# Altium schematic symbol library SLAYER_Altium_Sch.SchLib: 31 symbols
Pins are listed as number, name and electrical type; pins without a type are passive.

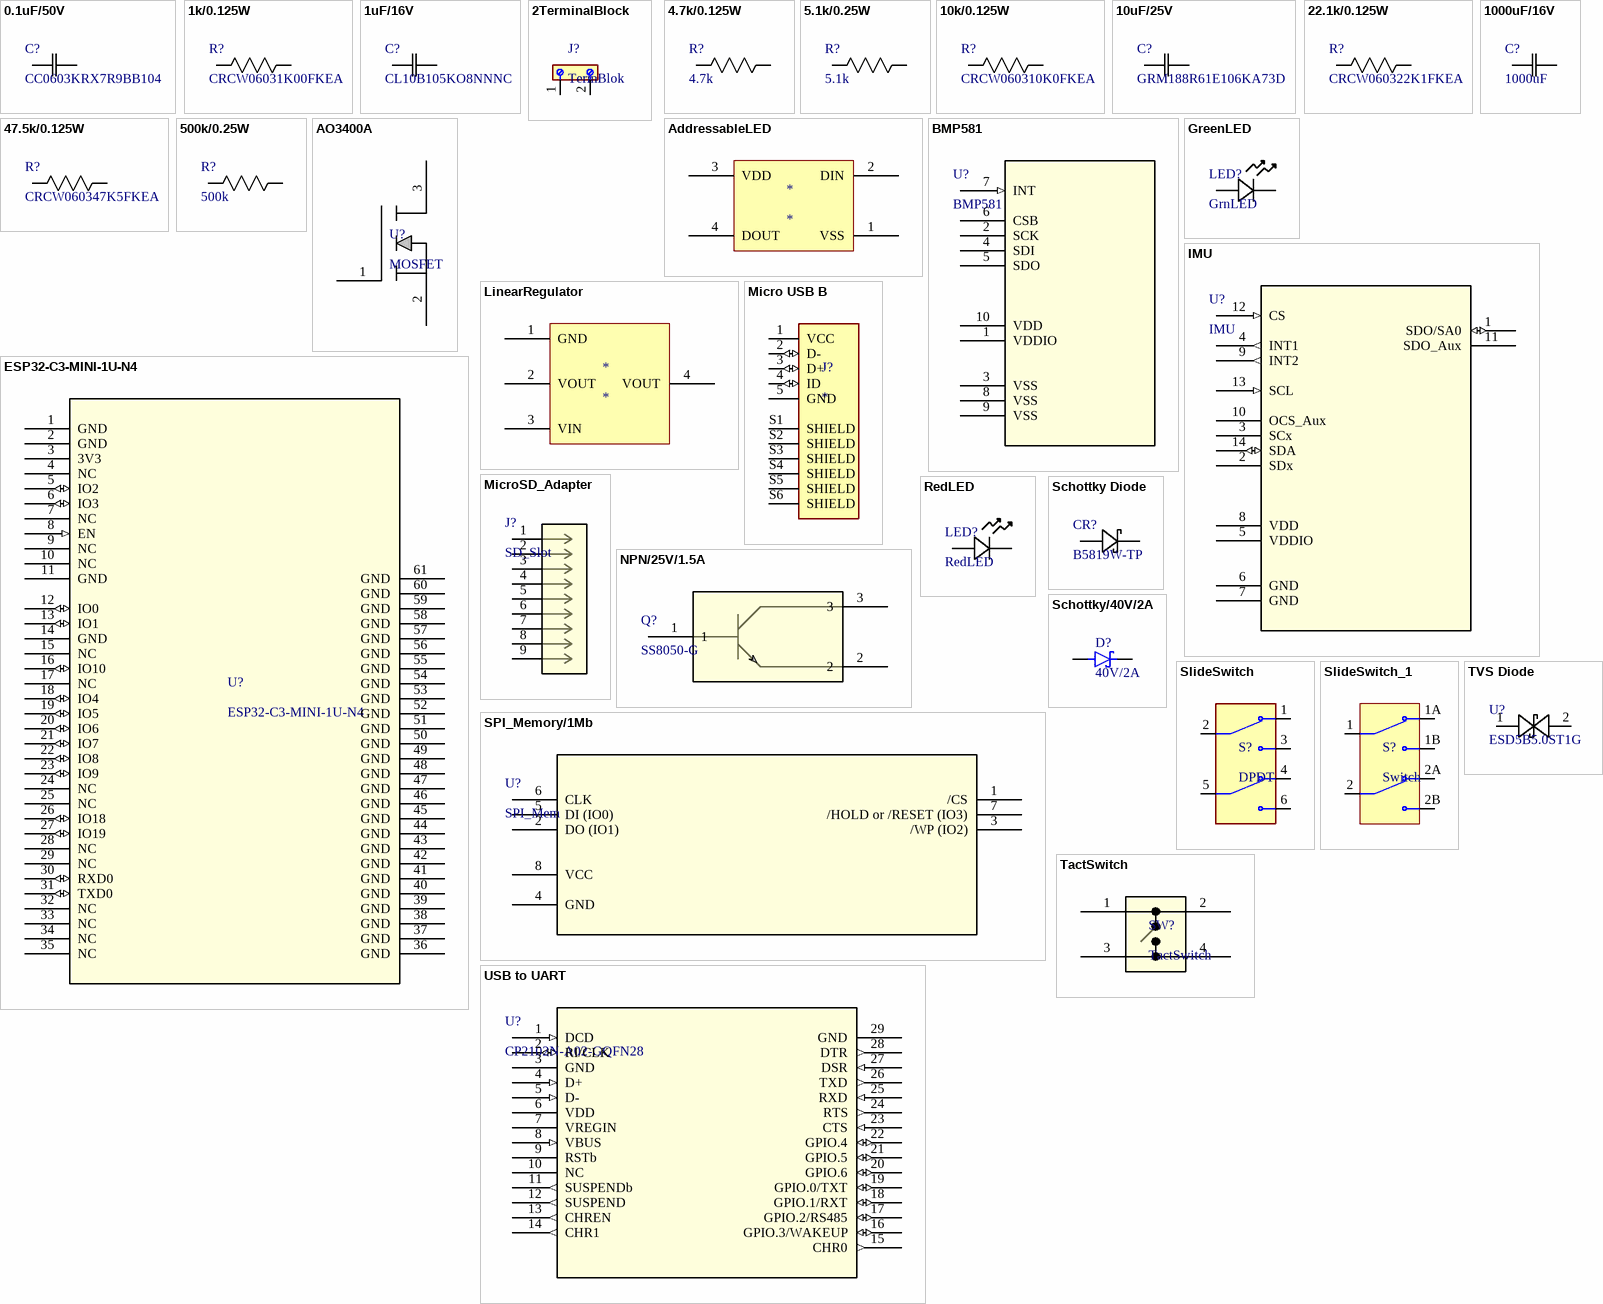
[diagram p0: symbols 0.1uF/50V to USB to UART]

## 0.1uF/50V
designator C?, comment CC0603KRX7R9BB104
Manufacturer_Name: Yageo; Copyright: Copyright (C) 2025 Ultra Librarian. All rights reserved.; Manufacturer_Part_Number: CC0603KRX7R9BB104
footprint 0.1uF/50V (CC0603KRX7R9BB104)
pins: 1, 2

## 1k/0.125W
designator R?, comment CRCW06031K00FKEA
Manufacturer_Name: Vishay; Copyright: Copyright (C) 2026 Ultra Librarian. All rights reserved.; Manufacturer_Part_Number: CRCW06031K00FKEA
footprint 1k/0.125W (CRCW06031K00FKEA)
pins: 1, 2

## 1uF/16V
designator C?, comment CL10B105KO8NNNC
Manufacturer_Name: Samsung; Copyright: Copyright (C) 2025 Ultra Librarian. All rights reserved.; Manufacturer_Part_Number: CL10B105KO8NNNC
footprint 1uF/16V (CL10B105KO8NNNC)
pins: 1, 2

## 2TerminalBlock
designator J?, comment TermBlok
691137710002; MF: WÃ¼rth Elektronik; SnapEDA_Link: https://www.snapeda.com/parts/691137710002/W%25C3%25BCrth+Elektronik+Midcom/view-part/?ref=snap; Package: None; Value: *; MP: 691137710002; Check_prices: https://www.snapeda.com/parts/691137710002/W%25C3%25BCrth+Elektronik+Midcom/view-part/?ref=eda
footprint TerminalBlock (691137710002)
pins: 1, 2

## 4.7k/0.125W
designator R?, comment 4.7k
CRCW06034K70FKEA; Manufacturer_Name: Vishay; Copyright: Copyright (C) 2025 Ultra Librarian. All rights reserved.; Manufacturer_Part_Number: CRCW06034K70FKEA
footprint 4.7k/0.125W (CRCW06034K70FKEA)
pins: 1, 2

## 5.1k/0.25W
designator R?, comment 5.1k
CRCW08055K10FKEA; Manufacturer_Name: Vishay; Copyright: Copyright (C) 2026 Ultra Librarian. All rights reserved.; Manufacturer_Part_Number: CRCW08055K10FKEA
footprint 5.1k/0.25W (CRCW08055K10FKEA)
pins: 1, 2

## 10k/0.125W
designator R?, comment CRCW060310K0FKEA
Manufacturer_Name: Vishay; Copyright: Copyright (C) 2025 Ultra Librarian. All rights reserved.; Manufacturer_Part_Number: CRCW060310K0FKEA
footprint 10k/0.125W (CRCW060310K0FKEA)
pins: 1, 2

## 10uF/25V
designator C?, comment GRM188R61E106KA73D
Manufacturer_Name: Murata; Copyright: Copyright (C) 2026 Ultra Librarian. All rights reserved.; Manufacturer_Part_Number: GRM188R61E106KA73D
footprint 10uF/25V/0603 (GRM188R61E106KA73D)
pins: 1, 2

## 22.1k/0.125W
designator R?, comment CRCW060322K1FKEA
Manufacturer_Name: Vishay; Copyright: Copyright (C) 2025 Ultra Librarian. All rights reserved.; Manufacturer_Part_Number: CRCW060322K1FKEA
footprint 22.1k/0.125W (CRCW060322K1FKEA)
pins: 1, 2

## 47.5k/0.125W
designator R?, comment CRCW060347K5FKEA
Manufacturer_Name: Vishay; Copyright: Copyright (C) 2026 Ultra Librarian. All rights reserved.; Manufacturer_Part_Number: CRCW060347K5FKEA
footprint 47.5k/0.125W (CRCW060347K5FKEA)
pins: 1, 2

## 500k/0.25W
designator R?, comment 500k
RC1206FR-07470KL; Manufacturer_Name: Yageo; Copyright: Copyright (C) 2026 Ultra Librarian. All rights reserved.; Manufacturer_Part_Number: RC1206FR-07470KL
footprint 500k/0.25W (RC1206FR-07470KL)
pins: 1, 2

## 1000uF/16V
designator C?, comment 1000uF
A768MS108M1CLAS015; Manufacturer_Name: Kemet; Type: Aluminum-Polymer Capacitors; Copyright: Copyright (C) 2025 Ultra Librarian. All rights reserved.; Manufacturer_Part_Number: A768MS108M1CLAS015
footprint 1000uF/16V (A768MS108M1CLAS015)
pins: 1, 2

## AddressableLED
designator *
footprint AddressableLED (SK6812MINI-HS-012)
pins: 1 VSS (power), 2 DIN (power), 3 VDD (power), 4 DOUT (power)

## AO3400A
designator U?, comment MOSFET
AO3400A; Manufacturer_Name: Alpha and Omega Semiconductor; Copyright: Copyright (C) 2025 Ultra Librarian. All rights reserved.; Manufacturer_Part_Number: AO3400A; RefDes: RefDes; Type: Type
footprint MOSFET (AO3400A)
pins: 1 G, 2 S, 3 D

## BMP581
designator U?
Manufacturer_Name: Bosch Sensortec; Copyright: Copyright (C) 2026 Ultra Librarian. All rights reserved.; Manufacturer_Part_Number: BMP581; RefDes: RefDes; Type: Type
footprint BMP581
pins: 1 VDDIO (power), 2 SCK, 3 VSS (power), 4 SDI, 5 SDO, 6 CSB, 7 INT (in), 8 VSS (power), 9 VSS (power), 10 VDD (power)

## ESP32-C3-MINI-1U-N4
designator U?
Description; Manufacturer_Name: Espressif Systems; Type: RF; Copyright: Copyright (C) 2025 Ultra Librarian. All rights reserved.; Manufacturer_Part_Number: ESP32-C3-MINI-1U-N4; RefDes: RefDes
footprint ESP32-C3-MINI-1U_EXP
pins: 1 GND (power), 2 GND (power), 3 3V3 (power), 4 NC, 5 IO2 (io), 6 IO3 (io), 7 NC, 8 EN (in), 9 NC, 10 NC, 11 GND (power), 12 IO0 (io), 13 IO1 (io), 14 GND (power), 15 NC, 16 IO10 (io), 17 NC, 18 IO4 (io), 19 IO5 (io), 20 IO6 (io), 21 IO7 (io), 22 IO8 (io), 23 IO9 (io), 24 NC, 25 NC, 26 IO18 (io), 27 IO19 (io), 28 NC, 29 NC, 30 RXD0 (io), 31 TXD0 (io), 32 NC, 33 NC, 34 NC, 35 NC, 36 GND (power), 37 GND (power), 38 GND (power), 39 GND (power), 40 GND (power), 41 GND (power), 42 GND (power), 43 GND (power), 44 GND (power), 45 GND (power), 46 GND (power), 47 GND (power), 48 GND (power), 49 GND (power), 50 GND (power), 51 GND (power), 52 GND (power), 53 GND (power), 54 GND (power), 55 GND (power), 56 GND (power), 57 GND (power), 58 GND (power), 59 GND (power), 60 GND (power), 61 GND (power)

## GreenLED
designator LED?, comment GrnLED
LTST-C190KGKT; Manufacturer_Name: LITE-ON; Copyright: Copyright (C) 2025 Ultra Librarian. All rights reserved.; Manufacturer_Part_Number: LTST-C190KGKT
footprint GreenLED (LTST-C190KGKT)
pins: 1, 2

## IMU
designator U?
LSM6DSMTR; Manufacturer_Name: STMicroelectronics; Copyright: Copyright (C) 2026 Ultra Librarian. All rights reserved.; Manufacturer_Part_Number: LSM6DSMTR; RefDes: RefDes; Type: Type
footprint IMU (LSM6DSMTR)
pins: 1 SDO/SA0 (io), 2 SDx, 3 SCx, 4 INT1 (out), 5 VDDIO (power), 6 GND (power), 7 GND (power), 8 VDD (power), 9 INT2 (out), 10 OCS_Aux, 11 SDO_Aux, 12 CS (in), 13 SCL (in), 14 SDA (io)

## LinearRegulator
designator *
SGM2212-3.3XKC3G/TR
footprint LinearRegulator (SGM2212-3.3XKC3G/TR)
pins: 1 GND (power), 2 VOUT (power), 3 VIN (power), 4 VOUT (power)

## Micro USB B
designator J?
10118192-0002LF; MF: Amphenol ICC; SnapEDA_Link: https://www.snapeda.com/parts/10118192-0002LF/Amphenol+FCI/view-part/?ref=snap; Package: None; Value: *; MP: 10118192-0002LF; Check_prices: https://www.snapeda.com/parts/10118192-0002LF/Amphenol+FCI/view-part/?ref=eda
footprint Micro_USB_B (10118192-0002LF)
pins: 1 VCC (power), 2 D- (io), 3 D+ (io), 4 ID (io), 5 GND (power), S1 SHIELD, S2 SHIELD, S3 SHIELD, S4 SHIELD, S5 SHIELD, S6 SHIELD

## MicroSD_Adapter
designator J?, comment SD_Slot
DM3AT-SF-PEJM5; Manufacturer_Name: Hirose; Copyright: Copyright (C) 2026 Ultra Librarian. All rights reserved.; Manufacturer_Part_Number: DM3AT-SF-PEJM5; RefDes: RefDes; Type: Type
footprint CONN8_DM3AT-SF-PEJM5_HIR
pins: 1, 2, 3, 4, 5, 6, 7, 8, 9

## NPN/25V/1.5A
designator Q?, comment SS8050-G
Manufacturer_Name: Comchip; Copyright: Copyright (C) 2026 Ultra Librarian. All rights reserved.; Manufacturer_Part_Number: SS8050-G; RefDes: RefDes; Type: Type
footprint NPN/25V/1.5A (SS8050-G)
pins: 1, 2, 3

## RedLED
designator LED?
LTST-C190KRKT; Manufacturer_Name: LITE-ON; Type: LED Indication; Copyright: Copyright (C) 2026 Ultra Librarian. All rights reserved.; Manufacturer_Part_Number: LTST-C190KRKT
footprint RedLED (LTST-C190KRKT)
pins: 1 CATHODE, 2 ANODE

## Schottky Diode
designator CR?, comment B5819W-TP
Manufacturer_Name: MCC; Copyright: Copyright (C) 2025 Ultra Librarian. All rights reserved.; Manufacturer_Part_Number: B5819W-TP
footprint Schottky Diode (B5819W-TP)
pins: 1, 2

## Schottky/40V/2A
designator D?, comment 40V/2A
SS24; MF: Taiwan Semiconductor; Package: SMB-2 Taiwan Semiconductor; Price: None; Value: *; SnapEDA_Link: https://www.snapeda.com/parts/SS24/Taiwan+Semiconductor/view-part/?ref=snap; MP: SS24; Availability: In Stock; Check_prices: https://www.snapeda.com/parts/SS24/Taiwan+Semiconductor/view-part/?ref=eda
footprint Schotty/40V/2A (SS24)
pins: A, C K

## SlideSwitch
designator S?, comment DPDT
GF-126-0159; MF: {'manufacturer': u'CW Industries'}; Package: None; Price: None; Value: *; MP: GF-126-0159; Availability: Unavailable
footprint SlideSwitch2 (SW_GF-126-0159)
pins: 1 NC1, 2 COM1, 3 NO1, 4 NC2, 5 COM2, 6 NO2

## SlideSwitch_1
designator S?, comment Switch
V80212MS02Q; MF: C&K; SnapEDA_Link: https://www.snapeda.com/parts/V80212MS02Q/C%2526K/view-part/?ref=snap; Package: None; Value: *; MP: V80212MS02Q; Check_prices: https://www.snapeda.com/parts/V80212MS02Q/C%2526K/view-part/?ref=eda
footprint SlideSwitch (V80212MS02Q)
pins: 1, 1A, 1B, 2, 2A, 2B

## SPI_Memory/1Mb
designator U?, comment SPI_Mem
W25Q128JVSIQ; Manufacturer_Name: Winbond; Copyright: Copyright (C) 2026 Ultra Librarian. All rights reserved.; Manufacturer_Part_Number: W25Q128JVSIQ; RefDes: RefDes; Type: Type
footprint SPI_Memory/1Mb (W25Q128JVSIQ)
pins: 1 /CS, 2 DO (IO1), 3 /WP (IO2), 4 GND (power), 5 DI (IO0), 6 CLK, 7 /HOLD or /RESET (IO3), 8 VCC (power)

## TactSwitch
designator SW?
PTS815 SJM 250 SMTR LFS; Manufacturer_Name: C&K Components; Copyright: Copyright (C) 2026 Ultra Librarian. All rights reserved.; Manufacturer_Part_Number: PTS815 SJM 250 SMTR LFS; RefDes: RefDes; Type: Type
footprint TactSwitch (PTS815 SJM 250 SMTR LFS)
pins: 1, 2, 3, 4

## TVS Diode
designator U?, comment ESD5B5.0ST1G
Manufacturer_Name: onsemi; Copyright: Copyright (C) 2025 Ultra Librarian. All rights reserved.; Manufacturer_Part_Number: ESD5B5.0ST1G; RefDes: RefDes; Type: Type
footprint TVS Diode (ESD5B5.0ST1G)
pins: 1, 2

## USB to UART
designator U?, comment CP2102N-A02-GQFN28
Manufacturer_Name: Silicon Labs; Copyright: Copyright (C) 2025 Ultra Librarian. All rights reserved.; Manufacturer_Part_Number: CP2102N-A02-GQFN28; RefDes: RefDes; Type: Type
footprint USB to UART (CP2102N-A02-GQFN28)
pins: 1 DCD (in), 2 RI/CLK (io), 3 GND (power), 4 D+ (in), 5 D- (in), 6 VDD (power), 7 VREGIN (power), 8 VBUS (in), 9 RSTb, 10 NC, 11 SUSPENDb (out), 12 SUSPEND (out), 13 CHREN (out), 14 CHR1 (out), 15 CHR0 (out), 16 GPIO.3/WAKEUP (io), 17 GPIO.2/RS485 (io), 18 GPIO.1/RXT (io), 19 GPIO.0/TXT (io), 20 GPIO.6 (io), 21 GPIO.5 (io), 22 GPIO.4 (io), 23 CTS (in), 24 RTS (out), 25 RXD (in), 26 TXD (out), 27 DSR (in), 28 DTR (out), 29 GND (power)